# Altium schematic symbol library AG.Diode.SchLib: 1 symbol
Pins are listed as number, name and electrical type; pins without a type are passive.

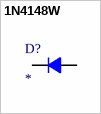
[diagram p0: symbol 1N4148W]

## 1N4148W
designator D?
DIODE GEN PURP 100V 300MA SOD123; Similar Part: BAV16W; Manufacturer: Diodes Incorporated; Manufacturer Product Number: 1N4148W-7-F; Supplier Part No: 1N4148W-FDICT-ND; Supplier URL: https://www.digikey.com/en/products/detail/diodes-incorporated/1N4148W-7-F/814371; Mounting Technology: SMT; Package: SOD-123
footprint SOD123-RP (Generic SOD-123 Diode (Rounded Pads))
footprint SOD123 (Generic SOD-123 Diode)
pins: A, C
1 alternate drawing of the same symbol